# Altium footprint library Summits7Beta_LIB_Conectores_PCB.PcbLib: 6 footprints
Each footprint in its own frame and in the unit in brackets; x right, y up, seen from the top. Pads: shape width x height; smd on the part's side, far side on the other; paste and mask are expansions set on the pad; w line width, h text height; cw(c..) or ccw(c..) is an arc to the next point about the centre after c.
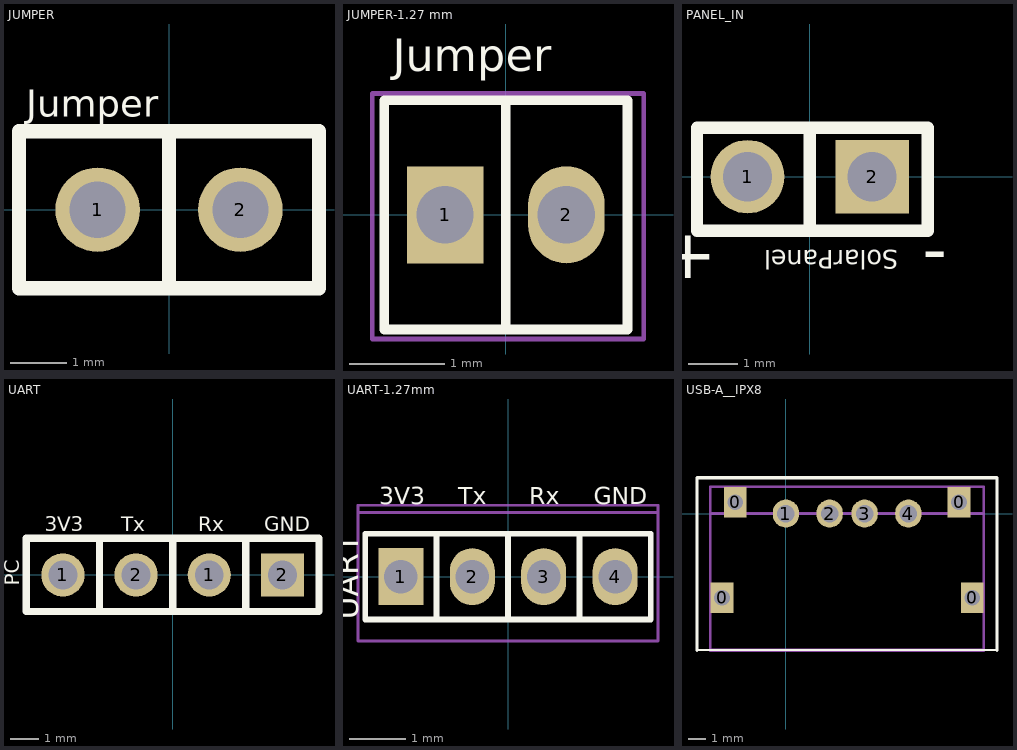
[diagram p0: the footprints below, top view; thin cyan lines are the x and y axes]

## JUMPER [mm] "Footprint Jumper"
pads (2):
  round 1.5 hole 1: 1(-1.27,0) 2(1.27,0)
Top Overlay:
  lines w0.254: 0,-1.27 0,1.27 ; -2.667,-1.397 2.667,-1.397 2.667,1.397 -2.667,1.397 -2.667,-1.397
  text "Jumper" at -2.54,1.651 h0.48
Mechanical 13:
  circle w0.25: c1.25,0 r0.17
  circle w0.25: c-1.25,0 r0.17
  lines w0.152: -2.667,-1.397 2.667,-1.397 2.667,1.397 -2.667,1.397 -2.667,-1.397
  text "'.Designator'" at -2.4,1.6 h0.5
Mechanical 15:
  lines w0.152: -2.667,-1.397 2.667,-1.397 2.667,1.397 -2.667,1.397 -2.667,-1.397
3D body "Header_254mm_Pitch2-1.step": height 5.95, standoff -2.93, extent -2.54,-1.27 2.54,1.27

## JUMPER-1.27 mm [mm] "Footprint Jumper"
pads (2):
  rect 0.8x1.016 hole 0.6: 1(-0.635,0)
  oval 0.8x1.016 hole 0.6: 2(0.635,0)
Top Overlay:
  lines w0.08: 0,1.2 0.443,1.2
  lines w0.102: -0.013,-1.2 0.707,-1.2 ; 0.43,-1.2 1.275,-1.2 1.275,1.2 0.443,1.2 ; 0.72,1.2 0,1.2 ; 0,1.2 -1.27,1.2 -1.27,-1.2 0,-1.2 0,1.2
  text "Jumper" at -1.18,1.5 h0.34
Mechanical 13:
  circle w0.25: c-0.65,0 r0.17
  circle w0.25: c0.65,0 r0.17
  lines w0.051: -1.397,-1.3 -1.397,1.27 1.445,1.27 1.445,-1.3 -1.397,-1.3
  text "'.Designator'" at -1.3,0.9 h0.22
Mechanical 15:
  lines w0.051: -1.397,-1.3 -1.397,1.27 1.445,1.27 1.445,-1.3 -1.397,-1.3
3D body "Header_127mm_Pitch2-1_usar2.step": height 4.85, standoff -2.4, extent -1.27,-1.2 1.27,1.2

## PANEL_IN [mm] "Footprint Entrada del Panel Solar"
pads (2):
  round 1.5 hole 1: 1(-1.27,0)
  rect 1.5x1.5 hole 1: 2(1.27,0)
Top Overlay:
  lines w0.254: 0,-1.1 0,1 ; -2.3,-1.1 -2.3,1 2.4,1 2.4,-1.1 -2.3,-1.1
  text "-" at 2.8,-1.2 h1.02
  text "+" at -1.9,-1.2 h1.02
  text "SolarPanel" at 1.8,-1.5 h0.38
Mechanical 13:
  circle w0.25: c-1.25,0 r0.17
  circle w0.25: c1.25,0 r0.17
  lines w0.05: -2.3,-1.1 2.4,-1.1 2.4,1 -2.3,1 -2.3,-1.1
  text "'.Designator'" at 2.2,-0.6 h0.25
Mechanical 15:
  lines w0.152: -2.3,-1.1 2.4,-1.1 2.4,1 -2.3,1 -2.3,-1.1

## UART [mm] "Footprint Conector UART"
pads (4):
  round 1.5 hole 1: 1(-3.81,0) 1(1.27,0) 2(-1.27,0)
  rect 1.5x1.5 hole 1: 2(3.81,0)
Top Overlay:
  lines w0.254: -2.54,-1.27 -2.54,1.27 ; 2.54,-1.27 2.54,1.27 ; 0,-1.27 0,1.27 ; 0,-1.27 -5.08,-1.27 -5.08,1.27 0,1.27 ; 0,-1.27 5.08,-1.27 5.08,1.27 0,1.27
  text "GND" at 3.175,1.524 h0.51
  text "Rx" at 0.889,1.524 h0.51
  text "Tx" at -1.778,1.524 h0.51
  text "3V3" at -4.445,1.524 h0.51
  text "PC" at -5.334,-0.381 h0.51
Mechanical 13:
  lines w0.152: -5.08,-1.27 -5.08,1.27 5.08,1.27 5.08,-1.27 -5.08,-1.27
Mechanical 15:
  lines w0.152: -5.08,-1.27 -5.08,1.27 5.08,1.27 5.08,-1.27 -5.08,-1.27
3D body "Header_254mm_Pitch4-1.step": height 5.95, standoff -2.93, extent -5.08,-1.27 5.08,1.27

## UART-1.27mm [mm] "Socket UART"
pads (4):
  rect 0.8x1.016 hole 0.6: 1(-1.905,0)
  oval 0.8x1.016 hole 0.6: 2(-0.635,0) 3(0.635,0) 4(1.905,0)
Top Overlay:
  lines w0.102: -1.27,-0.762 -1.27,0.762 -2.54,0.762 ; 0,-0.762 0,0.762 ; 1.27,-0.762 1.27,0.762 ; -2.54,0.762 2.54,0.762 2.54,-0.762 -2.54,-0.762 -2.54,0.762
  text "GND" at 1.524,1.289 h0.3
  text "Rx" at 0.381,1.289 h0.3
  text "Tx" at -0.889,1.289 h0.3
  text "3V3" at -2.286,1.289 h0.3
  text "UART" at -2.667,-0.762 h0.41
Mechanical 13:
  circle w0.25: c-0.6,0 r0.17
  circle w0.25: c1.9,0 r0.17
  circle w0.25: c0.7,0 r0.17
  circle w0.25: c-1.915,0 r0.17
  lines w0.051: -2.667,-1.143 2.667,-1.143 2.667,1.27 -2.667,1.27 -2.667,-1.143
  text "'.Designator'" at -2.5,0.6 h0.4
Mechanical 15:
  lines w0.051: -2.667,-1.143 2.667,-1.143 2.667,1.143 -2.667,1.143 -2.667,-1.143
3D body "Header_127mm_Pitch2-1_usar2.step": height 4.85, standoff -2.4, extent -2.54,-1.2 0,1.2
3D body "Header_127mm_Pitch2-1_usar2.step": height 4.85, standoff -2.4, extent 0,-1.2 2.54,1.2

## USB-A__IPX8 [mm] "Footprint del USB tipo A"
pads (8):
  rect 1.3x1.75 hole 0.9 square: 0(-3.65,-4.82) 0(-2.9,0.64) 0(9.9,0.64) 0(10.65,-4.82)
  oval 1.5x1.6 hole 1: 1(0,0) 2(2.5,0) 3(4.5,0) 4(7,0)
Top Overlay:
  lines w0.127: -5.08,-7.8 12.065,-7.8
  lines w0.2: -5.08,-7.8 -5.08,2.032 12.065,2.032 12.065,-7.8
Mechanical 13:
  circle w0.25: c2.5,0 r0.17
  circle w0.25: c7,0 r0.17
  circle w0.25: c0,0 r0.17
  circle w0.25: c4.5,0 r0.17
  lines w0.152: -4.318,-7.8 11.303,-7.8 11.303,-6.35 11.303,0 -4.318,0 -4.318,-7.8
  text "'.Designator'" at -3.7,-1.7 h0.5
Mechanical 15:
  lines w0.152: -4.318,-7.8 -4.318,1.524 11.303,1.524 11.303,-7.8
  lines w0.2: -4.318,-7.8 11.303,-7.8
3D body "USB_A_ip68.STEP": height 7.46, standoff -0.99, extent -4.15,-10.95 11.15,1.2